# Altium footprint library PcbLib_litle1bit.PcbLib: 1 footprints
Each footprint in its own frame and in the unit in brackets; x right, y up, seen from the top. Pads: shape width x height; smd on the part's side, far side on the other; paste and mask are expansions set on the pad; w line width, h text height; cw(c..) or ccw(c..) is an arc to the next point about the centre after c.
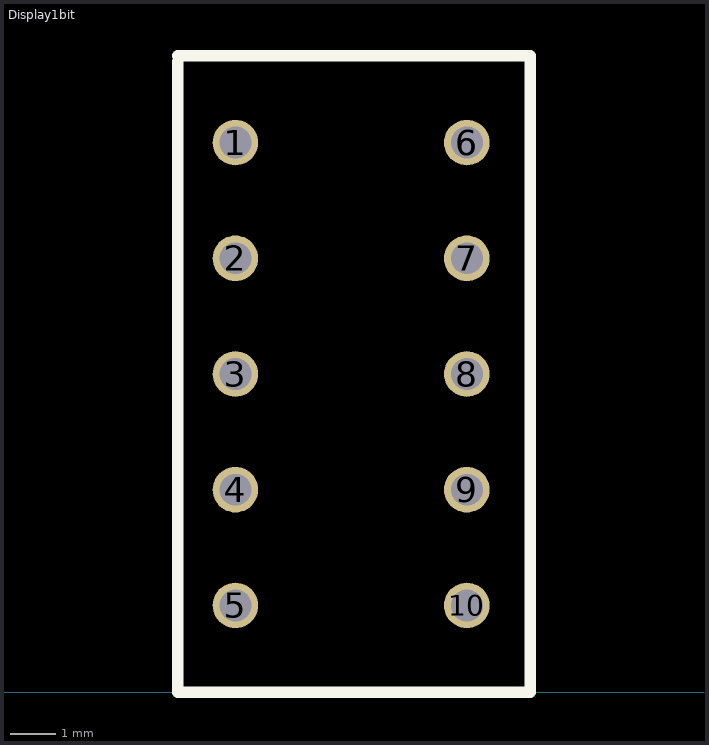
[diagram p0: the footprint, top view; thin cyan lines are the x and y axes]

## Display1bit [mm]
pads (12):
  round 1 hole 0.7: 1(17.145,12.065) 1(17.145,12.065) 2(17.145,9.525) 3(17.145,6.985) 4(17.145,4.445) 5(17.145,1.905) 6(22.225,12.065) 6(22.225,12.065) 7(22.225,9.525) 8(22.225,6.985) 9(22.225,4.445) 10(22.225,1.905)
Top Overlay:
  lines w0.254: 15.875,13.843 15.875,0 23.622,0 23.622,13.97 15.875,13.97